# EAGLE library part SFMC-117-01-L-D-K (library SFMC-117-01-L-D-K)
.050" Tiger Eye High-Reliability Flexible Pin Count Socket Strip, 2x positions Source: Datasheet <https://au.mouser.com/ProductDetail/Samtec/SFMC-117-01-L-D-K?qs=PB6/jmICvI0qEg9HcYnQkA==>
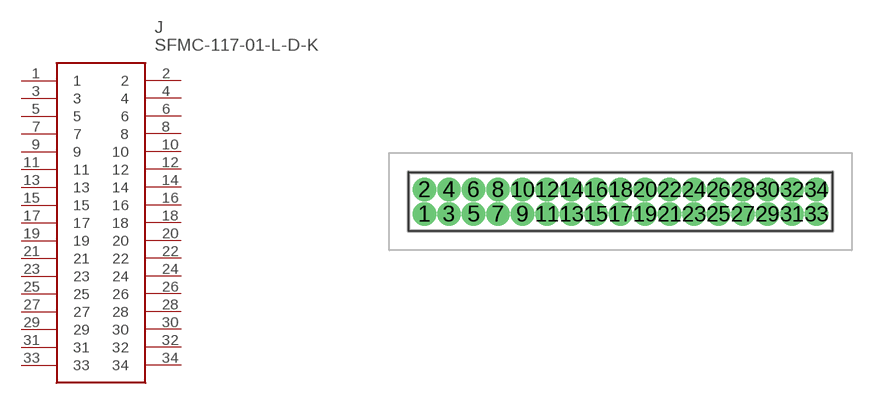
[diagram p0: symbol with the pads of SFMC11701LDK; footprint SFMC11701LDK]

Designator prefix J

## SFMC-117-01-L-D-K (Description: .050" Tiger Eye High-Reliability Flexible Pin Count Socket Strip, 2x positions; Height: 4.57mm; Manufacturer_Name: SAMTEC; Manufacturer_Part_Number: SFMC-117-01-L-D-K; Mouser_Part_Number: 200-SFMC11701LDK; Mouser_Price-Stock: https://www.mouser.co.uk/ProductDetail/Samtec/SFMC-117-01-L-D-K?qs=PB6%2FjmICvI0qEg9HcYnQkA%3D%3D)  [SFMC11701LDK]
1  1
2  2
3  3
4  4
5  5
6  6
7  7
8  8
9  9
10  10
11  11
12  12
13  13
14  14
15  15
16  16
17  17
18  18
19  19
20  20
21  21
22  22
23  23
24  24
25  25
26  26
27  27
28  28
29  29
30  30
31  31
32  32
33  33
34  34

## Footprint SFMC11701LDK (pad centres in mm)
SFMC-117-01-L-D-K-5
drill 0.71 pad 1.1: 1 0,0; 2 0,1.27; 3 1.27,0; 4 1.27,1.27; 5 2.54,0; 6 2.54,1.27; 7 3.81,0; 8 3.81,1.27; 9 5.08,0; 10 5.08,1.27; 11 6.35,0; 12 6.35,1.27; 13 7.62,0; 14 7.62,1.27; 15 8.89,0; 16 8.89,1.27; 17 10.16,0; 18 10.16,1.27; 19 11.43,0; 20 11.43,1.27; 21 12.7,0; 22 12.7,1.27; 23 13.97,0; 24 13.97,1.27; 25 15.24,0; 26 15.24,1.27; 27 16.51,0; 28 16.51,1.27; 29 17.78,0; 30 17.78,1.27; 31 19.05,0; 32 19.05,1.27; 33 20.32,0; 34 20.32,1.27